# EAGLE library part MAX621 (library ee192)
MAX621 Quad, High-Side MOSFET Drivers. DIP18 Package
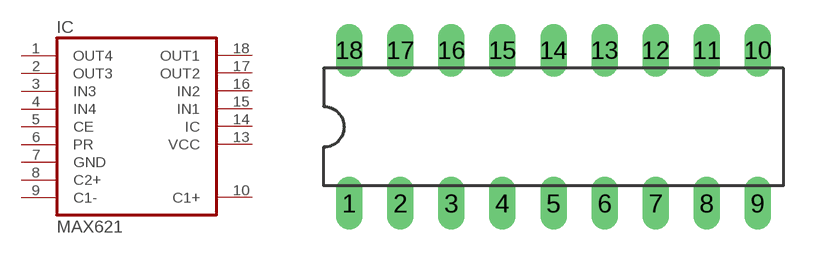
[diagram p3: symbol with the pads of DIL18; footprint DIL18]

Designator prefix IC

## MAX621  [DIL18]
1  OUT4
2  OUT3
3  IN3
4  IN4
5  CE
6  PR
7  GND
8  C2+
9  C1-
10  C1+
13  VCC
14  IC
15  IN1
16  IN2
17  OUT2
18  OUT1

## Footprint DIL18 (pad centres in mm)
drill 0.813 long: 1 -10.16,-3.81; 2 -7.62,-3.81; 3 -5.08,-3.81; 4 -2.54,-3.81; 5 0,-3.81; 6 2.54,-3.81; 7 5.08,-3.81; 8 7.62,-3.81; 9 10.16,-3.81; 10 10.16,3.81; 11 7.62,3.81; 12 5.08,3.81; 13 2.54,3.81; 14 0,3.81; 15 -2.54,3.81; 16 -5.08,3.81; 17 -7.62,3.81; 18 -10.16,3.81